# Altium schematic symbol library SWITCH_SPST_4PIN.SchLib: 1 symbol
Pins are listed as number, name and electrical type; pins without a type are passive.

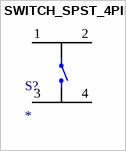
[diagram p0: symbol SWITCH_SPST_4PIN]

## SWITCH_SPST_4PIN
designator S?
Value: *
pins: 1, 2, 3, 4